# EAGLE library part EZO-FLOW (library EZO)
EZO-FLOW - EZO Embedded Flow Meter Totalizer for measuring total flow and flow rate Manufacturer: Atlas Scientific Manufacturer Part Number: EZO-FLOW Specifications Operating Voltage: 3.3V - 5V Communication Protocol: UART/I2C Default I2C address: 0x68 Data Format: ASCII Atlas Scientific EZO Embedded Flow Meter Totalizer <https://atlas-scientific.com/embedded-solutions/ezo-embedded-flow-meter-totalizer/>
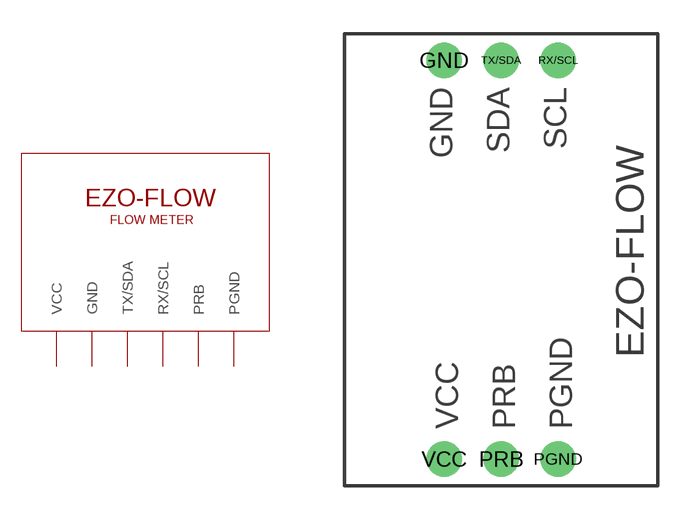
[diagram p1: symbol with the pads of EZO-FLOW; footprint EZO-FLOW]

Designator prefix U

## EZO-FLOW  [EZO-FLOW]
GND  GND
PGND  PGND
PRB  PRB
RX/SCL  RX/SCL
TX/SDA  TX/SDA
VCC  VCC

## Footprint EZO-FLOW (pad centres in mm)
drill 1.05: GND 4.445,18.97; PGND 9.525,1.19; PRB 6.985,1.19; RX/SCL 9.525,18.97; TX/SDA 6.985,18.97; VCC 4.445,1.19